# Altium schematic symbol library Relay.SchLib: 1 symbol
Pins are listed as number, name and electrical type; pins without a type are passive.

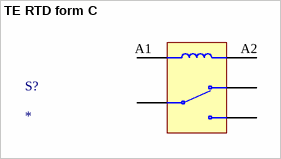
[diagram p0: symbol TE RTD form C]

## TE RTD form C
designator S?
pins: 11, 12, 14, A1, A2